# EAGLE library part 1554ИД7 (library std-logic-1554series)
АЕЯР.431200.182-10 ТУ 1554ИД7 - Дешифратор-демультиплексор 3 - 8 с инверсией на выходе. Изготовитель: ОАО "ИНТЕГРАЛ", г. Минск, р. Беларусь. Технические условия (ТБМ): АЕЯР.431200.182-10 ТУ Технические условия (не ТБМ): АЕЯР.431200.093-07 ТУ
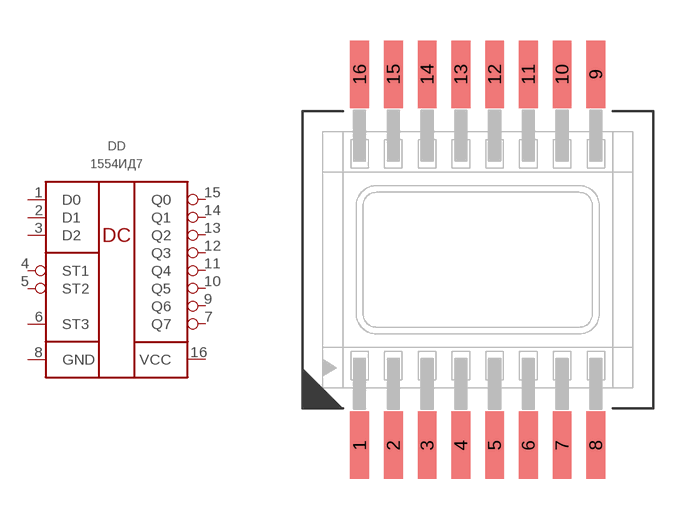
[diagram p30: symbol with the pads of 402.16-32; footprint 402.16-32]

Designator prefix DD

## 1554ИД7ТБМ  [402.16-32]
1  D0  in
2  D1  in
3  D2  in
4  ST1  in
5  ST2  in
6  ST3  in
7  Q7  out
8  GND  pwr
9  Q6  out
10  Q5  out
11  Q4  out
12  Q3  out
13  Q2  out
14  Q1  out
15  Q0  out
16  VCC  pwr

## Footprint 402.16-32 (pad centres in mm)
smd 0.7 x 2.5: 1 -4.375,-6.875; 2 -3.125,-6.875; 3 -1.875,-6.875; 4 -0.625,-6.875; 5 0.625,-6.875; 6 1.875,-6.875; 7 3.125,-6.875; 8 4.375,-6.875; 9 4.375,6.875; 10 3.125,6.875; 11 1.875,6.875; 12 0.625,6.875; 13 -0.625,6.875; 14 -1.875,6.875; 15 -3.125,6.875; 16 -4.375,6.875